# EAGLE library part APS6404L-3SQR-ZR (library RP2350A)
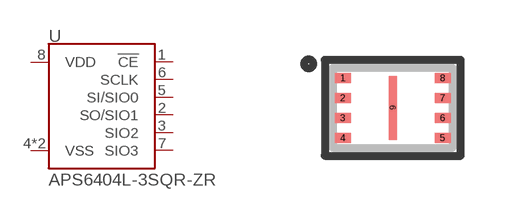
[diagram p1: symbol with the pads of APS6404L-3SQR-ZR; footprint APS6404L-3SQR-ZR]

Designator prefix U

## APS6404L-3SQR-ZR (PROD_ID: IC-21870)  [APS6404L-3SQR-ZR]
1  !CE!
2  SO/SIO1
3  SIO2
4  VSS
5  SI/SIO0
6  SCLK
7  SIO3
8  VDD
9  VSS

## Footprint APS6404L-3SQR-ZR (pad centres in mm)
smd 0.4 x 0.25: 1 -1.25,0.75; 2 -1.25,0.25; 3 -1.25,-0.25; 4 -1.25,-0.75; 5 1.25,-0.75; 6 1.25,-0.25; 7 1.25,0.25; 8 1.25,0.75
smd 0.2 x 1.6: 9 0,0